# EAGLE library part TPS74801DRCR (library Texas Instruments)
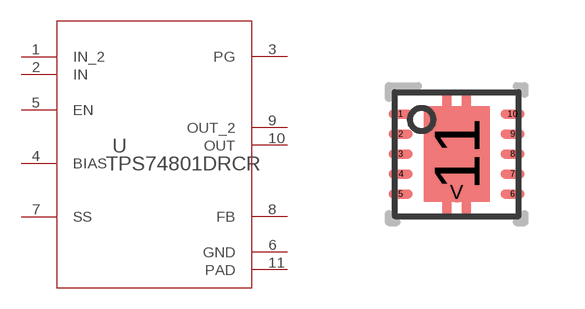
[diagram p32: symbol with the pads of DRC0010A; footprint DRC0010A]

Designator prefix U

## TPS74801DRCR (ALTERNATEPARTNUMBER: TPS74801DRCT; APPLICATION_BUILDNUMBER: *; COMPTYPE: IC; MANUFACTURER: Texas Instruments; MOUNTTYPE: SMT; PACKAGEREFERENCE: DRC0010A; PARTNUMBER: TPS74801DRCR; PIN_COUNT: 11; REFDES: RefDes; ROHS: Y; TYPE: TYPE; VALUE: Value)  [DRC0010A]
1  IN_2  pwr
2  IN  pwr
3  PG  oc
4  BIAS  in
5  EN  in
6  GND  pwr
7  SS  in
8  FB  in
9  OUT_2  pwr
10  OUT  pwr
11  PAD  pwr

## Footprint DRC0010A (pad centres in mm)
smd 0.61 x 0.229: 1 -1.4,1; 2 -1.4,0.5; 3 -1.4,0; 4 -1.4,-0.5; 5 -1.4,-1; 6 1.4,-1; 7 1.4,-0.5; 8 1.4,0; 9 1.4,0.5; 10 1.4,1
smd 1.651 x 2.388: 11 0,0
smd 0.508 x 0.508: V 0,-0.95